# Altium schematic symbol library Connector1x5.Schlib: 1 symbol
Pins are listed as number, name and electrical type; pins without a type are passive.

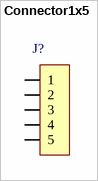
[diagram p0: symbol Connector1x5]

## Connector1x5
designator J?
pins: 1, 2, 3, 4, 5